# EAGLE library part PP140-80CBS2.00X2.50 (library NewSDR)
LeaderTech 2.00" x 2.50" Shield
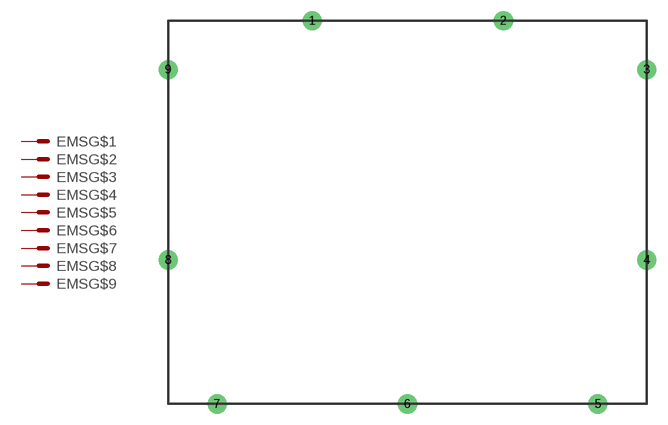
[diagram p61: symbol with the pads of PP140-80CBS2.00X2.50; footprint PP140-80CBS2.00X2.50]

Designator prefix EMS; gates G$1=MS G$2=MS G$3=MS G$4=MS G$5=MS G$6=MS G$7=MS G$8=MS G$9=MS

## PP140-80CBS2.00X2.50  [PP140-80CBS2.00X2.50]
1  G$1:MS  pas
2  G$2:MS  pas
3  G$3:MS  pas
4  G$4:MS  pas
5  G$5:MS  pas
6  G$6:MS  pas
7  G$7:MS  pas
8  G$8:MS  pas
9  G$9:MS  pas

## Footprint PP140-80CBS2.00X2.50 (pad centres in mm)
drill 1.27 pad 2.54: 1 19.202,0; 2 44.704,0; 3 63.805,-6.502; 4 63.805,-31.902; 5 57.302,-51.105; 6 31.902,-51.105; 7 6.502,-51.105; 8 0,-31.902; 9 0,-6.502